# EAGLE library part 40P*-JMCS-G (library jst-jmc)
0.5mm Pitch SMT Board to Board Connector Source: http://www.jst-mfg.com/product/pdf/jpn/JMC.pdf http://www.jst-mfg.com/product/detail.php?series=147
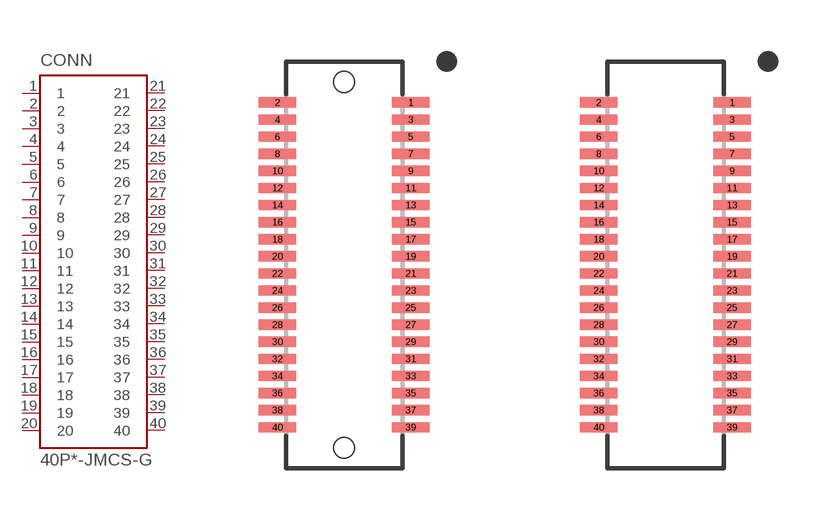
[diagram p6: symbol with the pads of 40P*-JMCS-G-B-TF; footprints 40P*-JMCS-G-B-TF, 40P*-JMCS-G-TF]

Designator prefix CONN

## 40P10.0-JMCS-G-B-TF, 40P3.0-JMCS-G-B-TF, 40P3.5-JMCS-G-B-TF, 40P4.0-JMCS-G-B-TF, 40P5.0-JMCS-G-B-TF, 40P6.0-JMCS-G-B-TF, 40P6.5-JMCS-G-B-TF, 40P9.0-JMCS-G-B-TF  [40P*-JMCS-G-B-TF]
1  1
2  2
3  3
4  4
5  5
6  6
7  7
8  8
9  9
10  10
11  11
12  12
13  13
14  14
15  15
16  16
17  17
18  18
19  19
20  20
21  21
22  22
23  23
24  24
25  25
26  26
27  27
28  28
29  29
30  30
31  31
32  32
33  33
34  34
35  35
36  36
37  37
38  38
39  39
40  40

## 40P3.0-JMCS-G-TF, 40P3.5-JMCS-G-TF, 40P4.0-JMCS-G-TF, 40P5.0-JMCS-G-TF  [40P*-JMCS-G-TF]
Pads as for 40P*-JMCS-G-B-TF

## Footprint 40P*-JMCS-G-B-TF (pad centres in mm)
smd 1.1 x 0.3: 1 1.95,4.75; 2 -1.95,4.75; 3 1.95,4.25; 4 -1.95,4.25; 5 1.95,3.75; 6 -1.95,3.75; 7 1.95,3.25; 8 -1.95,3.25; 9 1.95,2.75; 10 -1.95,2.75; 11 1.95,2.25; 12 -1.95,2.25; 13 1.95,1.75; 14 -1.95,1.75; 15 1.95,1.25; 16 -1.95,1.25; 17 1.95,0.75; 18 -1.95,0.75; 19 1.95,0.25; 20 -1.95,0.25; 21 1.95,-0.25; 22 -1.95,-0.25; 23 1.95,-0.75; 24 -1.95,-0.75; 25 1.95,-1.25; 26 -1.95,-1.25; 27 1.95,-1.75; 28 -1.95,-1.75; 29 1.95,-2.25; 30 -1.95,-2.25; 31 1.95,-2.75; 32 -1.95,-2.75; 33 1.95,-3.25; 34 -1.95,-3.25; 35 1.95,-3.75; 36 -1.95,-3.75; 37 1.95,-4.25; 38 -1.95,-4.25; 39 1.95,-4.75; 40 -1.95,-4.75
hole 0.6 at 0,5.35
hole 0.6 at 0,-5.35

## Footprint 40P*-JMCS-G-TF (pad centres in mm)
smd 1.1 x 0.3: 1 1.95,4.75; 2 -1.95,4.75; 3 1.95,4.25; 4 -1.95,4.25; 5 1.95,3.75; 6 -1.95,3.75; 7 1.95,3.25; 8 -1.95,3.25; 9 1.95,2.75; 10 -1.95,2.75; 11 1.95,2.25; 12 -1.95,2.25; 13 1.95,1.75; 14 -1.95,1.75; 15 1.95,1.25; 16 -1.95,1.25; 17 1.95,0.75; 18 -1.95,0.75; 19 1.95,0.25; 20 -1.95,0.25; 21 1.95,-0.25; 22 -1.95,-0.25; 23 1.95,-0.75; 24 -1.95,-0.75; 25 1.95,-1.25; 26 -1.95,-1.25; 27 1.95,-1.75; 28 -1.95,-1.75; 29 1.95,-2.25; 30 -1.95,-2.25; 31 1.95,-2.75; 32 -1.95,-2.75; 33 1.95,-3.25; 34 -1.95,-3.25; 35 1.95,-3.75; 36 -1.95,-3.75; 37 1.95,-4.25; 38 -1.95,-4.25; 39 1.95,-4.75; 40 -1.95,-4.75